# Altium integrated library NSC Amplifier.IntLib: 1615 symbols (part 27 of 44)
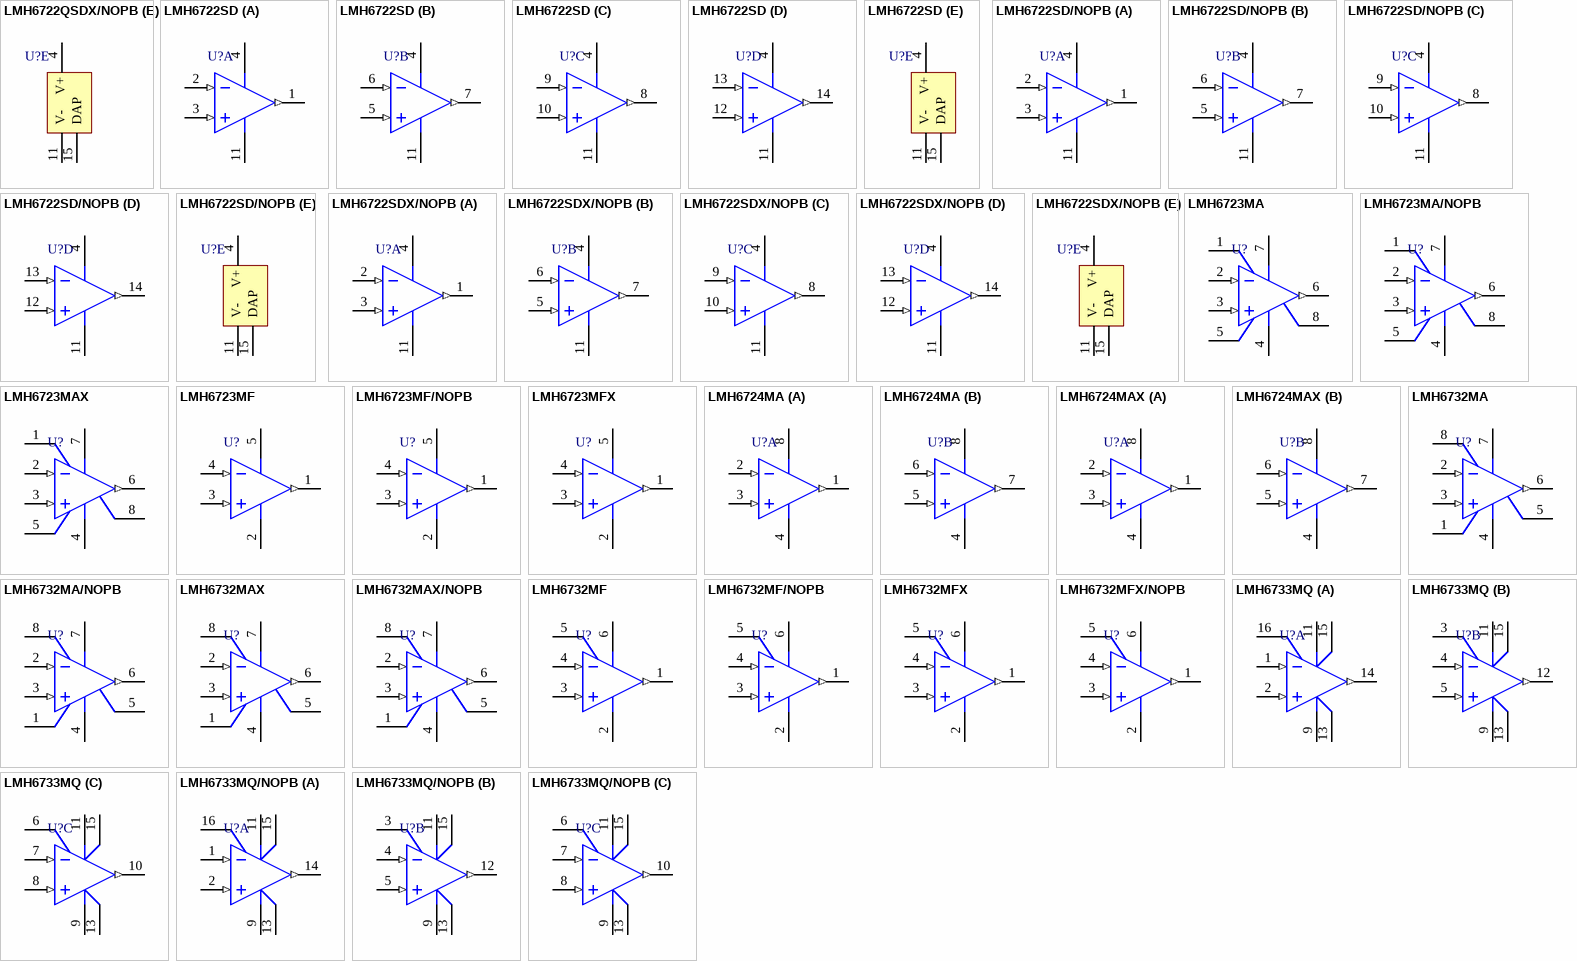
[diagram p108: symbols LMH6722QSDX/NOPB to LMH6733MQ/NOPB]

## LMH6723MF/NOPB
designator U?
Single/Quad 370 MHz 1 mA Current Feedback Op Amp, 5-pin SOT-23, Pb-Free; PartNumber: LMH6723MF/NOPB; Manufacturer: National Semiconductor; PackageTopMarking: AB1A*XTT; PowerWise: Y; CompType: Amplifiers; Published: 1-Mar-2010; DatasheetVersion: Aug-2005; PackageVersion: revD, Aug-2008; PackageReference: MF05A; Publisher: Altium Limited; PackageDescription: Molded SOT-23, .115 x .063 x .040 in Body, 5 Lead, .0375 in Pitch; Supplier 1: Digi-Key; Supplier Part Number 1: LMH6723MFTR-ND; Supplier 2: Digi-Key; Supplier Part Number 2: LMH6723MFCT-ND; Supplier 3: Digi-Key; Supplier Part Number 3: LMH6723MFDKR-ND; RoHS: Y; PinCount: 5; ComponentLink1Description: LMH6723 Datasheet; ComponentLink1URL: http://www.national.com/ds/LM/LMH6723.pdf; ComponentLink2Description: LMH6723 Web Page; ComponentLink2URL: http://www.national.com/pf/LM/LMH6723.html; ComponentLink3Description: MF05A Package Page; ComponentLink3URL: http://www.national.com/packaging/folders/mf05a.html
footprint MF05A_N (SOT23, 5-Leads, Body 2.9x1.6mm, Pitch 0.95mm, Lead Span 2.8mm, IPC Medium Density)
footprint MF05A_L (SOT23, 5-Leads, Body 2.9x1.6mm, Pitch 0.95mm, Lead Span 2.8mm, IPC High Density)
footprint MF05A_M (SOT23, 5-Leads, Body 2.9x1.6mm, Pitch 0.95mm, Lead Span 2.8mm, IPC Low Density)
simulation model LMH6723 (SUBCKT)
pins: 1 OUT (out), 2 V- (power), 3 IN+ (in), 4 IN- (in), 5 V+ (power)

## LMH6723MFX
designator U?
Single/Quad 370 MHz 1 mA Current Feedback Op Amp, 5-pin SOT-23; PartNumber: LMH6723MFX; Manufacturer: National Semiconductor; PackageTopMarking: AB1A*XTT; PowerWise: Y; CompType: Amplifiers; Published: 1-Mar-2010; DatasheetVersion: Aug-2005; PackageVersion: revD, Aug-2008; PackageReference: MF05A; Publisher: Altium Limited; PackageDescription: Molded SOT-23, .115 x .063 x .040 in Body, 5 Lead, .0375 in Pitch; RoHS: N; PinCount: 5; ComponentLink1Description: LMH6723 Datasheet; ComponentLink1URL: http://www.national.com/ds/LM/LMH6723.pdf; ComponentLink2Description: LMH6723 Web Page; ComponentLink2URL: http://www.national.com/pf/LM/LMH6723.html; ComponentLink3Description: MF05A Package Page; ComponentLink3URL: http://www.national.com/packaging/folders/mf05a.html
footprint MF05A_N (SOT23, 5-Leads, Body 2.9x1.6mm, Pitch 0.95mm, Lead Span 2.8mm, IPC Medium Density)
footprint MF05A_L (SOT23, 5-Leads, Body 2.9x1.6mm, Pitch 0.95mm, Lead Span 2.8mm, IPC High Density)
footprint MF05A_M (SOT23, 5-Leads, Body 2.9x1.6mm, Pitch 0.95mm, Lead Span 2.8mm, IPC Low Density)
simulation model LMH6723 (SUBCKT)
pins: 1 OUT (out), 2 V- (power), 3 IN+ (in), 4 IN- (in), 5 V+ (power)

## LMH6724MA
designator U?
Single/Dual/Quad 370 MHz 1 mA Current Feedback Op Amp, 8-pin Narrow SOIC; PartNumber: LMH6724MA; Manufacturer: National Semiconductor; PackageTopMarking: NSZXTT*LMH67*24MA; PowerWise: Y; CompType: Amplifiers; Published: 4-Dec-2008; LatestRevisionDate: 13-Jan-2009; LatestRevisionNote: Sim Model Added.; DatasheetVersion: Aug-2005; PackageVersion: revM, May-2009; PackageReference: M08A; Publisher: Altium Limited; PackageDescription: SOIC Narrow, 4.9 x 3.9 x 1.45mm, 8 Lead, 1.27mm Pitch; Supplier 1: Farnell; Supplier Part Number 1: 8180920; RoHS: N; PinCount: 8; Code_JEDEC: MS-012-AA; Code_IPC: SOIC127P600-8; ComponentLink1Description: LMH6724 Datasheet; ComponentLink1URL: http://www.national.com/ds/LM/LMH6724.pdf; ComponentLink2Description: LMH6724 Web Page; ComponentLink2URL: http://www.national.com/pf/LM/LMH6724.html; ComponentLink3Description: M08A Package Page; ComponentLink3URL: http://www.national.com/packaging/folders/m08a.html
footprint M08A_N (SOIC, 8-Leads, Body 4.9x3.9mm, Pitch 1.27mm, IPC Medium Density)
footprint M08A_L (SOIC, 8-Leads, Body 4.9x3.9mm, Pitch 1.27mm, IPC High Density)
footprint M08A_M (SOIC, 8-Leads, Body 4.9x3.9mm, Pitch 1.27mm, IPC Low Density)
simulation model LMH6723 (SUBCKT)
pins on every part: 4 V- (power), 8 V+ (power)
part A pins: 1 OUTA (out), 2 INA- (in), 3 INA+ (in)
part B pins: 5 INB+ (in), 6 INB- (in), 7 OUTB (out)

## LMH6724MAX
designator U?
Single/Dual/Quad 370 MHz 1 mA Current Feedback Op Amp, 8-pin Narrow SOIC; PartNumber: LMH6724MAX; Manufacturer: National Semiconductor; PackageTopMarking: NSZXTT*LMH67*24MA; PowerWise: Y; CompType: Amplifiers; Published: 1-Mar-2010; DatasheetVersion: Aug-2005; PackageVersion: revM, May-2009; PackageReference: M08A; Publisher: Altium Limited; PackageDescription: SOIC Narrow, 4.9 x 3.9 x 1.45mm, 8 Lead, 1.27mm Pitch; RoHS: N; PinCount: 8; Code_JEDEC: MS-012-AA; Code_IPC: SOIC127P600-8; ComponentLink1Description: LMH6724 Datasheet; ComponentLink1URL: http://www.national.com/ds/LM/LMH6724.pdf; ComponentLink2Description: LMH6724 Web Page; ComponentLink2URL: http://www.national.com/pf/LM/LMH6724.html; ComponentLink3Description: M08A Package Page; ComponentLink3URL: http://www.national.com/packaging/folders/m08a.html
footprint M08A_N (SOIC, 8-Leads, Body 4.9x3.9mm, Pitch 1.27mm, IPC Medium Density)
footprint M08A_L (SOIC, 8-Leads, Body 4.9x3.9mm, Pitch 1.27mm, IPC High Density)
footprint M08A_M (SOIC, 8-Leads, Body 4.9x3.9mm, Pitch 1.27mm, IPC Low Density)
simulation model LMH6723 (SUBCKT)
pins on every part: 4 V- (power), 8 V+ (power)
part A pins: 1 OUTA (out), 2 INA- (in), 3 INA+ (in)
part B pins: 5 INB+ (in), 6 INB- (in), 7 OUTB (out)

## LMH6732MA
designator U?
High Speed Op Amp with Adjustable Bandwidth, 8-pin Narrow SOIC; PartNumber: LMH6732MA; Manufacturer: National Semiconductor; PackageTopMarking: NSZXTT*LMH67*32MA; PowerWise: Y; CompType: Amplifiers; Published: 4-Dec-2008; DatasheetVersion: Mar-2004; PackageVersion: revM, May-2009; PackageReference: M08A; Publisher: Altium Limited; PackageDescription: SOIC Narrow, 4.9 x 3.9 x 1.45mm, 8 Lead, 1.27mm Pitch; Supplier 1: Farnell; Supplier Part Number 1: 8180954; RoHS: N; PinCount: 8; Code_JEDEC: MS-012-AA; Code_IPC: SOIC127P600-8; ComponentLink1Description: LMH6732 Datasheet; ComponentLink1URL: http://www.national.com/ds/LM/LMH6732.pdf; ComponentLink2Description: LMH6732 Web Page; ComponentLink2URL: http://www.national.com/pf/LM/LMH6732.html; ComponentLink3Description: M08A Package Page; ComponentLink3URL: http://www.national.com/packaging/folders/m08a.html
footprint M08A_N (SOIC, 8-Leads, Body 4.9x3.9mm, Pitch 1.27mm, IPC Medium Density)
footprint M08A_L (SOIC, 8-Leads, Body 4.9x3.9mm, Pitch 1.27mm, IPC High Density)
footprint M08A_M (SOIC, 8-Leads, Body 4.9x3.9mm, Pitch 1.27mm, IPC Low Density)
pins: 1 NC, 2 IN- (in), 3 IN+ (in), 4 V- (power), 5 NC, 6 OUT (out), 7 V+ (power), 8 RP

## LMH6732MA/NOPB
designator U?
High Speed Op Amp with Adjustable Bandwidth, 8-pin Narrow SOIC, Pb-Free; PartNumber: LMH6732MA/NOPB; Manufacturer: National Semiconductor; PackageTopMarking: NSZXTT*LMH67*32MA; PowerWise: Y; CompType: Amplifiers; Published: 1-Mar-2010; DatasheetVersion: Mar-2004; PackageVersion: revM, May-2009; PackageReference: M08A; Publisher: Altium Limited; PackageDescription: SOIC Narrow, 4.9 x 3.9 x 1.45mm, 8 Lead, 1.27mm Pitch; Supplier 1: Digi-Key; Supplier Part Number 1: LMH6732MA-ND; RoHS: Y; PinCount: 8; Code_JEDEC: MS-012-AA; Code_IPC: SOIC127P600-8; ComponentLink1Description: LMH6732 Datasheet; ComponentLink1URL: http://www.national.com/ds/LM/LMH6732.pdf; ComponentLink2Description: LMH6732 Web Page; ComponentLink2URL: http://www.national.com/pf/LM/LMH6732.html; ComponentLink3Description: M08A Package Page; ComponentLink3URL: http://www.national.com/packaging/folders/m08a.html
footprint M08A_N (SOIC, 8-Leads, Body 4.9x3.9mm, Pitch 1.27mm, IPC Medium Density)
footprint M08A_L (SOIC, 8-Leads, Body 4.9x3.9mm, Pitch 1.27mm, IPC High Density)
footprint M08A_M (SOIC, 8-Leads, Body 4.9x3.9mm, Pitch 1.27mm, IPC Low Density)
pins: 1 NC, 2 IN- (in), 3 IN+ (in), 4 V- (power), 5 NC, 6 OUT (out), 7 V+ (power), 8 RP

## LMH6732MAX
designator U?
High Speed Op Amp with Adjustable Bandwidth, 8-pin Narrow SOIC; PartNumber: LMH6732MAX; Manufacturer: National Semiconductor; PackageTopMarking: NSZXTT*LMH67*32MA; PowerWise: Y; CompType: Amplifiers; Published: 1-Mar-2010; DatasheetVersion: Mar-2004; PackageVersion: revM, May-2009; PackageReference: M08A; Publisher: Altium Limited; PackageDescription: SOIC Narrow, 4.9 x 3.9 x 1.45mm, 8 Lead, 1.27mm Pitch; RoHS: N; PinCount: 8; Code_JEDEC: MS-012-AA; Code_IPC: SOIC127P600-8; ComponentLink1Description: LMH6732 Datasheet; ComponentLink1URL: http://www.national.com/ds/LM/LMH6732.pdf; ComponentLink2Description: LMH6732 Web Page; ComponentLink2URL: http://www.national.com/pf/LM/LMH6732.html; ComponentLink3Description: M08A Package Page; ComponentLink3URL: http://www.national.com/packaging/folders/m08a.html
footprint M08A_N (SOIC, 8-Leads, Body 4.9x3.9mm, Pitch 1.27mm, IPC Medium Density)
footprint M08A_L (SOIC, 8-Leads, Body 4.9x3.9mm, Pitch 1.27mm, IPC High Density)
footprint M08A_M (SOIC, 8-Leads, Body 4.9x3.9mm, Pitch 1.27mm, IPC Low Density)
pins: 1 NC, 2 IN- (in), 3 IN+ (in), 4 V- (power), 5 NC, 6 OUT (out), 7 V+ (power), 8 RP

## LMH6732MAX/NOPB
designator U?
High Speed Op Amp with Adjustable Bandwidth, 8-pin Narrow SOIC, Pb-Free; PartNumber: LMH6732MAX/NOPB; Manufacturer: National Semiconductor; PackageTopMarking: NSZXTT*LMH67*32MA; PowerWise: Y; CompType: Amplifiers; Published: 1-Mar-2010; DatasheetVersion: Mar-2004; PackageVersion: revM, May-2009; PackageReference: M08A; Publisher: Altium Limited; PackageDescription: SOIC Narrow, 4.9 x 3.9 x 1.45mm, 8 Lead, 1.27mm Pitch; Supplier 1: Digi-Key; Supplier Part Number 1: LMH6732MAX-ND; RoHS: Y; PinCount: 8; Code_JEDEC: MS-012-AA; Code_IPC: SOIC127P600-8; ComponentLink1Description: LMH6732 Datasheet; ComponentLink1URL: http://www.national.com/ds/LM/LMH6732.pdf; ComponentLink2Description: LMH6732 Web Page; ComponentLink2URL: http://www.national.com/pf/LM/LMH6732.html; ComponentLink3Description: M08A Package Page; ComponentLink3URL: http://www.national.com/packaging/folders/m08a.html
footprint M08A_N (SOIC, 8-Leads, Body 4.9x3.9mm, Pitch 1.27mm, IPC Medium Density)
footprint M08A_L (SOIC, 8-Leads, Body 4.9x3.9mm, Pitch 1.27mm, IPC High Density)
footprint M08A_M (SOIC, 8-Leads, Body 4.9x3.9mm, Pitch 1.27mm, IPC Low Density)
pins: 1 NC, 2 IN- (in), 3 IN+ (in), 4 V- (power), 5 NC, 6 OUT (out), 7 V+ (power), 8 RP

## LMH6732MF
designator U?
High Speed Op Amp with Adjustable Bandwidth, 6-pin SOT-23; PartNumber: LMH6732MF; Manufacturer: National Semiconductor; PackageTopMarking: A97A*XTT; PowerWise: Y; CompType: Amplifiers; Published: 4-Dec-2008; DatasheetVersion: Mar-2004; PackageVersion: revC, Sep-2005; PackageReference: MF06A; Publisher: Altium Limited; PackageDescription: Molded SOT-23, .115 x .063 x .040in Body, 6 Lead, .0375in in Pitch; Supplier 1: Farnell; Supplier Part Number 1: 8180962; RoHS: N; PinCount: 6; Code_JEDEC: MO-178-AB; Code_IPC: SOT26A-6; ComponentLink1Description: LMH6732 Datasheet; ComponentLink1URL: http://www.national.com/ds/LM/LMH6732.pdf; ComponentLink2Description: LMH6732 Web Page; ComponentLink2URL: http://www.national.com/pf/LM/LMH6732.html; ComponentLink3Description: MF06A Package Page; ComponentLink3URL: http://www.national.com/packaging/folders/mf06a.html
footprint MF06A_N (SOT23, 6-Leads, Body 2.9x1.6mm, Pitch 0.95mm, Lead Span 2.8mm, IPC Medium Density)
footprint MF06A_L (SOT23, 6-Leads, Body 2.9x1.6mm, Pitch 0.95mm, Lead Span 2.8mm, IPC High Density)
footprint MF06A_M (SOT23, 6-Leads, Body 2.9x1.6mm, Pitch 0.95mm, Lead Span 2.8mm, IPC Low Density)
pins: 1 OUT (out), 2 V- (power), 3 IN+ (in), 4 IN- (in), 5 RP, 6 V+ (power)

## LMH6732MF/NOPB
designator U?
High Speed Op Amp with Adjustable Bandwidth, 6-pin SOT-23, Pb-Free; PartNumber: LMH6732MF/NOPB; Manufacturer: National Semiconductor; PackageTopMarking: A97A*XTT; PowerWise: Y; CompType: Amplifiers; Published: 1-Mar-2010; DatasheetVersion: Mar-2004; PackageVersion: revC, Sep-2005; PackageReference: MF06A; Publisher: Altium Limited; PackageDescription: Molded SOT-23, .115 x .063 x .040in Body, 6 Lead, .0375in in Pitch; Supplier 1: Digi-Key; Supplier Part Number 1: LMH6732MFTR-ND; Supplier 2: Digi-Key; Supplier Part Number 2: LMH6732MFCT-ND; Supplier 3: Digi-Key; Supplier Part Number 3: LMH6732MFDKR-ND; RoHS: Y; PinCount: 6; Code_JEDEC: MO-178-AB; Code_IPC: SOT26A-6; ComponentLink1Description: LMH6732 Datasheet; ComponentLink1URL: http://www.national.com/ds/LM/LMH6732.pdf; ComponentLink2Description: LMH6732 Web Page; ComponentLink2URL: http://www.national.com/pf/LM/LMH6732.html; ComponentLink3Description: MF06A Package Page; ComponentLink3URL: http://www.national.com/packaging/folders/mf06a.html
footprint MF06A_N (SOT23, 6-Leads, Body 2.9x1.6mm, Pitch 0.95mm, Lead Span 2.8mm, IPC Medium Density)
footprint MF06A_L (SOT23, 6-Leads, Body 2.9x1.6mm, Pitch 0.95mm, Lead Span 2.8mm, IPC High Density)
footprint MF06A_M (SOT23, 6-Leads, Body 2.9x1.6mm, Pitch 0.95mm, Lead Span 2.8mm, IPC Low Density)
pins: 1 OUT (out), 2 V- (power), 3 IN+ (in), 4 IN- (in), 5 RP, 6 V+ (power)

## LMH6732MFX
designator U?
High Speed Op Amp with Adjustable Bandwidth, 6-pin SOT-23; PartNumber: LMH6732MFX; Manufacturer: National Semiconductor; PackageTopMarking: A97A*XTT; PowerWise: Y; CompType: Amplifiers; Published: 1-Mar-2010; DatasheetVersion: Mar-2004; PackageVersion: revC, Sep-2005; PackageReference: MF06A; Publisher: Altium Limited; PackageDescription: Molded SOT-23, .115 x .063 x .040in Body, 6 Lead, .0375in in Pitch; RoHS: N; PinCount: 6; Code_JEDEC: MO-178-AB; Code_IPC: SOT26A-6; ComponentLink1Description: LMH6732 Datasheet; ComponentLink1URL: http://www.national.com/ds/LM/LMH6732.pdf; ComponentLink2Description: LMH6732 Web Page; ComponentLink2URL: http://www.national.com/pf/LM/LMH6732.html; ComponentLink3Description: MF06A Package Page; ComponentLink3URL: http://www.national.com/packaging/folders/mf06a.html
footprint MF06A_N (SOT23, 6-Leads, Body 2.9x1.6mm, Pitch 0.95mm, Lead Span 2.8mm, IPC Medium Density)
footprint MF06A_L (SOT23, 6-Leads, Body 2.9x1.6mm, Pitch 0.95mm, Lead Span 2.8mm, IPC High Density)
footprint MF06A_M (SOT23, 6-Leads, Body 2.9x1.6mm, Pitch 0.95mm, Lead Span 2.8mm, IPC Low Density)
pins: 1 OUT (out), 2 V- (power), 3 IN+ (in), 4 IN- (in), 5 RP, 6 V+ (power)

## LMH6732MFX/NOPB
designator U?
High Speed Op Amp with Adjustable Bandwidth, 6-pin SOT-23, Pb-Free; PartNumber: LMH6732MFX/NOPB; Manufacturer: National Semiconductor; PackageTopMarking: A97A*XTT; PowerWise: Y; CompType: Amplifiers; Published: 1-Mar-2010; DatasheetVersion: Mar-2004; PackageVersion: revC, Sep-2005; PackageReference: MF06A; Publisher: Altium Limited; PackageDescription: Molded SOT-23, .115 x .063 x .040in Body, 6 Lead, .0375in in Pitch; Supplier 1: Digi-Key; Supplier Part Number 1: LMH6732MFX-ND; RoHS: Y; PinCount: 6; Code_JEDEC: MO-178-AB; Code_IPC: SOT26A-6; ComponentLink1Description: LMH6732 Datasheet; ComponentLink1URL: http://www.national.com/ds/LM/LMH6732.pdf; ComponentLink2Description: LMH6732 Web Page; ComponentLink2URL: http://www.national.com/pf/LM/LMH6732.html; ComponentLink3Description: MF06A Package Page; ComponentLink3URL: http://www.national.com/packaging/folders/mf06a.html
footprint MF06A_N (SOT23, 6-Leads, Body 2.9x1.6mm, Pitch 0.95mm, Lead Span 2.8mm, IPC Medium Density)
footprint MF06A_L (SOT23, 6-Leads, Body 2.9x1.6mm, Pitch 0.95mm, Lead Span 2.8mm, IPC High Density)
footprint MF06A_M (SOT23, 6-Leads, Body 2.9x1.6mm, Pitch 0.95mm, Lead Span 2.8mm, IPC Low Density)
pins: 1 OUT (out), 2 V- (power), 3 IN+ (in), 4 IN- (in), 5 RP, 6 V+ (power)

## LMH6733MQ
designator U?
Single Supply, 1.0 GHz, Triple Operational Amplifier, 16-pin SSOP; PartNumber: LMH6733MQ; Manufacturer: National Semiconductor; PackageTopMarking: NSXYTT*LH67*33MQ; PowerWise: Y; CompType: Amplifiers; Published: 4-Dec-2008; LatestRevisionDate: 13-Jan-2009; LatestRevisionNote: Sim Model Added.; DatasheetVersion: Feb-2009; PackageVersion: revB, Jan-2005; PackageReference: MQA16; Publisher: Altium Limited; PackageDescription: SSOP, .150in Body Width, .025in Pitch, 16 Lead; Supplier 1: Farnell; Supplier Part Number 1: 1333959; RoHS: Y; PinCount: 16; Code_JEDEC: MO-137-AB; ComponentLink1Description: LMH6733 Datasheet; ComponentLink1URL: http://www.national.com/ds/LM/LMH6733.pdf; ComponentLink2Description: LMH6733 Web Page; ComponentLink2URL: http://www.national.com/pf/LM/LMH6733.html; ComponentLink3Description: MQA16 Package Page; ComponentLink3URL: http://www.national.com/packaging/folders/mqa16.html
footprint MQA16_N (SOP, 16-Leads, Body 4.9x3.9mm, Pitch 0.635mm, IPC Medium Density)
footprint MQA16_L (SOP, 16-Leads, Body 4.9x3.9mm, Pitch 0.635mm, IPC High Density)
footprint MQA16_M (SOP, 16-Leads, Body 4.9x3.9mm, Pitch 0.635mm, IPC Low Density)
simulation model LMH6733 (SUBCKT)
pins on every part: 9 VS- (power), 11 VS+ (power), 13 VS- (power), 15 VS+ (power)
part A pins: 1 INA- (in), 2 INA+ (in), 14 OUTA (out), 16 ~{DIS A}
part B pins: 3 ~{DIS B}, 4 INB- (in), 5 INB+ (in), 12 OUTB (out)
part C pins: 6 ~{DIS C}, 7 INC- (in), 8 INC+ (in), 10 OUTC (out)

## LMH6733MQ/NOPB
designator U?
Single Supply, 1.0 GHz, Triple Operational Amplifier, 16-pin SSOP, Pb-Free; PartNumber: LMH6733MQ/NOPB; Manufacturer: National Semiconductor; PackageTopMarking: NSXYTT*LH67*33MQ; PowerWise: Y; CompType: Amplifiers; Published: 1-Mar-2010; DatasheetVersion: Feb-2009; PackageVersion: revB, Jan-2005; PackageReference: MQA16; Publisher: Altium Limited; PackageDescription: SSOP, .150in Body Width, .025in Pitch, 16 Lead; Supplier 1: Digi-Key; Supplier Part Number 1: LMH6733MQ-ND; Supplier 2: Farnell; Supplier Part Number 2: 1693912; RoHS: Y; PinCount: 16; Code_JEDEC: MO-137-AB; ComponentLink1Description: LMH6733 Datasheet; ComponentLink1URL: http://www.national.com/ds/LM/LMH6733.pdf; ComponentLink2Description: LMH6733 Web Page; ComponentLink2URL: http://www.national.com/pf/LM/LMH6733.html; ComponentLink3Description: MQA16 Package Page; ComponentLink3URL: http://www.national.com/packaging/folders/mqa16.html
footprint MQA16_N (SOP, 16-Leads, Body 4.9x3.9mm, Pitch 0.635mm, IPC Medium Density)
footprint MQA16_L (SOP, 16-Leads, Body 4.9x3.9mm, Pitch 0.635mm, IPC High Density)
footprint MQA16_M (SOP, 16-Leads, Body 4.9x3.9mm, Pitch 0.635mm, IPC Low Density)
simulation model LMH6733 (SUBCKT)
pins on every part: 9 VS- (power), 11 VS+ (power), 13 VS- (power), 15 VS+ (power)
part A pins: 1 INA- (in), 2 INA+ (in), 14 OUTA (out), 16 ~{DIS A}
part B pins: 3 ~{DIS B}, 4 INB- (in), 5 INB+ (in), 12 OUTB (out)
part C pins: 6 ~{DIS C}, 7 INC- (in), 8 INC+ (in), 10 OUTC (out)

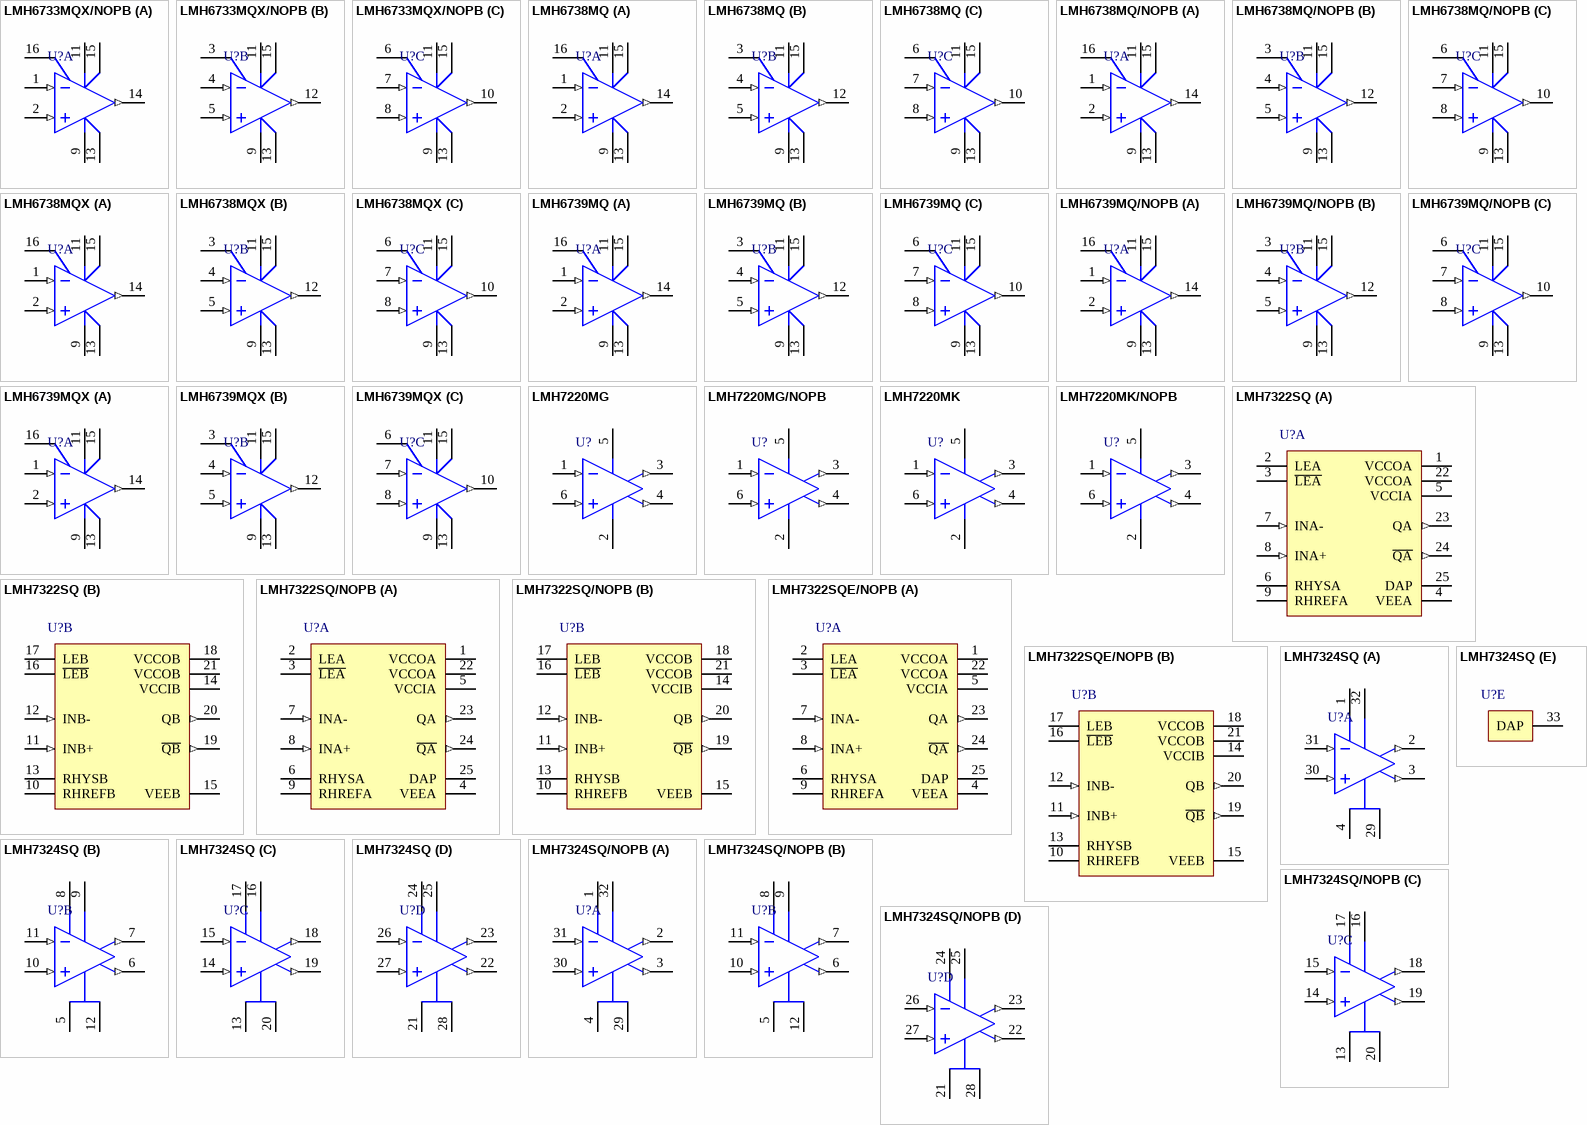
[diagram p53: symbols LMH6733MQX/NOPB to LMH7324SQ/NOPB]

## LMH6733MQX/NOPB
designator U?
Single Supply, 1.0 GHz, Triple Operational Amplifier, 16-pin SSOP, Pb-Free; PartNumber: LMH6733MQX/NOPB; Manufacturer: National Semiconductor; PackageTopMarking: NSXYTT*LH67*33MQ; PowerWise: Y; CompType: Amplifiers; Published: 1-Mar-2010; DatasheetVersion: Feb-2009; PackageVersion: revB, Jan-2005; PackageReference: MQA16; Publisher: Altium Limited; PackageDescription: SSOP, .150in Body Width, .025in Pitch, 16 Lead; Supplier 1: Digi-Key; Supplier Part Number 1: LMH6733MQX-ND; RoHS: Y; PinCount: 16; Code_JEDEC: MO-137-AB; ComponentLink1Description: LMH6733 Datasheet; ComponentLink1URL: http://www.national.com/ds/LM/LMH6733.pdf; ComponentLink2Description: LMH6733 Web Page; ComponentLink2URL: http://www.national.com/pf/LM/LMH6733.html; ComponentLink3Description: MQA16 Package Page; ComponentLink3URL: http://www.national.com/packaging/folders/mqa16.html
footprint MQA16_N (SOP, 16-Leads, Body 4.9x3.9mm, Pitch 0.635mm, IPC Medium Density)
footprint MQA16_L (SOP, 16-Leads, Body 4.9x3.9mm, Pitch 0.635mm, IPC High Density)
footprint MQA16_M (SOP, 16-Leads, Body 4.9x3.9mm, Pitch 0.635mm, IPC Low Density)
simulation model LMH6733 (SUBCKT)
pins on every part: 9 VS- (power), 11 VS+ (power), 13 VS- (power), 15 VS+ (power)
part A pins: 1 INA- (in), 2 INA+ (in), 14 OUTA (out), 16 ~{DIS A}
part B pins: 3 ~{DIS B}, 4 INB- (in), 5 INB+ (in), 12 OUTB (out)
part C pins: 6 ~{DIS C}, 7 INC- (in), 8 INC+ (in), 10 OUTC (out)

## LMH6738MQ
designator U?
Very Wideband, Low Distortion Triple Op Amp, 16-pin SSOP; PartNumber: LMH6738MQ; Manufacturer: National Semiconductor; PackageTopMarking: NSXYTT*LH67*38MQ; PowerWise: Y; CompType: Amplifiers; Published: 4-Dec-2008; LatestRevisionDate: 13-Jan-2009; LatestRevisionNote: Sim Model Added.; DatasheetVersion: Apr-2006; PackageVersion: revB, Jan-2005; PackageReference: MQA16; Publisher: Altium Limited; PackageDescription: SSOP, .150in Body Width, .025in Pitch, 16 Lead; Supplier 1: Farnell; Supplier Part Number 1: 8180970; RoHS: N; PinCount: 16; Code_JEDEC: MO-137-AB; ComponentLink1Description: LMH6738 Datasheet; ComponentLink1URL: http://www.national.com/ds/LM/LMH6738.pdf; ComponentLink2Description: LMH6738 Web Page; ComponentLink2URL: http://www.national.com/pf/LM/LMH6738.html; ComponentLink3Description: MQA16 Package Page; ComponentLink3URL: http://www.national.com/packaging/folders/mqa16.html
footprint MQA16_N (SOP, 16-Leads, Body 4.9x3.9mm, Pitch 0.635mm, IPC Medium Density)
footprint MQA16_L (SOP, 16-Leads, Body 4.9x3.9mm, Pitch 0.635mm, IPC High Density)
footprint MQA16_M (SOP, 16-Leads, Body 4.9x3.9mm, Pitch 0.635mm, IPC Low Density)
simulation model LMH6738 (SUBCKT)
pins on every part: 9 VS- (power), 11 VS+ (power), 13 VS- (power), 15 VS+ (power)
part A pins: 1 INA- (in), 2 INA+ (in), 14 OUTA (out), 16 ~{DIS A}
part B pins: 3 ~{DIS B}, 4 INB- (in), 5 INB+ (in), 12 OUTB (out)
part C pins: 6 ~{DIS C}, 7 INC- (in), 8 INC+ (in), 10 OUTC (out)

## LMH6738MQ/NOPB
designator U?
Very Wideband, Low Distortion Triple Op Amp, 16-pin SSOP, Pb-Free; PartNumber: LMH6738MQ/NOPB; Manufacturer: National Semiconductor; PackageTopMarking: NSXYTT*LH67*38MQ; PowerWise: Y; CompType: Amplifiers; Published: 1-Mar-2010; DatasheetVersion: Apr-2006; PackageVersion: revB, Jan-2005; PackageReference: MQA16; Publisher: Altium Limited; PackageDescription: SSOP, .150in Body Width, .025in Pitch, 16 Lead; Supplier 1: Digi-Key; Supplier Part Number 1: LMH6738MQ-ND; RoHS: Y; PinCount: 16; Code_JEDEC: MO-137-AB; ComponentLink1Description: LMH6738 Datasheet; ComponentLink1URL: http://www.national.com/ds/LM/LMH6738.pdf; ComponentLink2Description: LMH6738 Web Page; ComponentLink2URL: http://www.national.com/pf/LM/LMH6738.html; ComponentLink3Description: MQA16 Package Page; ComponentLink3URL: http://www.national.com/packaging/folders/mqa16.html
footprint MQA16_N (SOP, 16-Leads, Body 4.9x3.9mm, Pitch 0.635mm, IPC Medium Density)
footprint MQA16_L (SOP, 16-Leads, Body 4.9x3.9mm, Pitch 0.635mm, IPC High Density)
footprint MQA16_M (SOP, 16-Leads, Body 4.9x3.9mm, Pitch 0.635mm, IPC Low Density)
simulation model LMH6738 (SUBCKT)
pins on every part: 9 VS- (power), 11 VS+ (power), 13 VS- (power), 15 VS+ (power)
part A pins: 1 INA- (in), 2 INA+ (in), 14 OUTA (out), 16 ~{DIS A}
part B pins: 3 ~{DIS B}, 4 INB- (in), 5 INB+ (in), 12 OUTB (out)
part C pins: 6 ~{DIS C}, 7 INC- (in), 8 INC+ (in), 10 OUTC (out)

## LMH6738MQX
designator U?
Very Wideband, Low Distortion Triple Op Amp, 16-pin SSOP; PartNumber: LMH6738MQX; Manufacturer: National Semiconductor; PackageTopMarking: NSXYTT*LH67*38MQ; PowerWise: Y; CompType: Amplifiers; Published: 1-Mar-2010; DatasheetVersion: Apr-2006; PackageVersion: revB, Jan-2005; PackageReference: MQA16; Publisher: Altium Limited; PackageDescription: SSOP, .150in Body Width, .025in Pitch, 16 Lead; RoHS: N; PinCount: 16; Code_JEDEC: MO-137-AB; ComponentLink1Description: LMH6738 Datasheet; ComponentLink1URL: http://www.national.com/ds/LM/LMH6738.pdf; ComponentLink2Description: LMH6738 Web Page; ComponentLink2URL: http://www.national.com/pf/LM/LMH6738.html; ComponentLink3Description: MQA16 Package Page; ComponentLink3URL: http://www.national.com/packaging/folders/mqa16.html
footprint MQA16_N (SOP, 16-Leads, Body 4.9x3.9mm, Pitch 0.635mm, IPC Medium Density)
footprint MQA16_L (SOP, 16-Leads, Body 4.9x3.9mm, Pitch 0.635mm, IPC High Density)
footprint MQA16_M (SOP, 16-Leads, Body 4.9x3.9mm, Pitch 0.635mm, IPC Low Density)
simulation model LMH6738 (SUBCKT)
pins on every part: 9 VS- (power), 11 VS+ (power), 13 VS- (power), 15 VS+ (power)
part A pins: 1 INA- (in), 2 INA+ (in), 14 OUTA (out), 16 ~{DIS A}
part B pins: 3 ~{DIS B}, 4 INB- (in), 5 INB+ (in), 12 OUTB (out)
part C pins: 6 ~{DIS C}, 7 INC- (in), 8 INC+ (in), 10 OUTC (out)

## LMH6739MQ
designator U?
Very Wideband, Low Distortion Triple Video Buffer, 16-pin SSOP; PartNumber: LMH6739MQ; Manufacturer: National Semiconductor; PackageTopMarking: NSXYTT*LH67*39MQ; PowerWise: N; CompType: Amplifiers; Published: 4-Dec-2008; LatestRevisionDate: 13-Jan-2009; LatestRevisionNote: Sim Model Added.; DatasheetVersion: Dec-2007; PackageVersion: revB, Jan-2005; PackageReference: MQA16; Publisher: Altium Limited; PackageDescription: SSOP, .150in Body Width, .025in Pitch, 16 Lead; Supplier 1: Farnell; Supplier Part Number 1: 8180989; RoHS: N; PinCount: 16; Code_JEDEC: MO-137-AB; ComponentLink1Description: LMH6739 Datasheet; ComponentLink1URL: http://www.national.com/ds/LM/LMH6739.pdf; ComponentLink2Description: LMH6739 Web Page; ComponentLink2URL: http://www.national.com/pf/LM/LMH6739.html; ComponentLink3Description: MQA16 Package Page; ComponentLink3URL: http://www.national.com/packaging/folders/mqa16.html
footprint MQA16_N (SOP, 16-Leads, Body 4.9x3.9mm, Pitch 0.635mm, IPC Medium Density)
footprint MQA16_L (SOP, 16-Leads, Body 4.9x3.9mm, Pitch 0.635mm, IPC High Density)
footprint MQA16_M (SOP, 16-Leads, Body 4.9x3.9mm, Pitch 0.635mm, IPC Low Density)
simulation model LMH6739 (SUBCKT)
pins on every part: 9 VS- (power), 11 VS+ (power), 13 VS- (power), 15 VS+ (power)
part A pins: 1 INA- (in), 2 INA+ (in), 14 OUTA (out), 16 ~{DIS A}
part B pins: 3 ~{DIS B}, 4 INB- (in), 5 INB+ (in), 12 OUTB (out)
part C pins: 6 ~{DIS C}, 7 INC- (in), 8 INC+ (in), 10 OUTC (out)

## LMH6739MQ/NOPB
designator U?
Very Wideband, Low Distortion Triple Video Buffer, 16-pin SSOP, Pb-Free; PartNumber: LMH6739MQ/NOPB; Manufacturer: National Semiconductor; PackageTopMarking: NSXYTT*LH67*39MQ; PowerWise: N; CompType: Amplifiers; Published: 1-Mar-2010; DatasheetVersion: Dec-2007; PackageVersion: revB, Jan-2005; PackageReference: MQA16; Publisher: Altium Limited; PackageDescription: SSOP, .150in Body Width, .025in Pitch, 16 Lead; Supplier 1: Digi-Key; Supplier Part Number 1: LMH6739MQ-ND; Supplier 2: Farnell; Supplier Part Number 2: 1685372; RoHS: Y; PinCount: 16; Code_JEDEC: MO-137-AB; ComponentLink1Description: LMH6739 Datasheet; ComponentLink1URL: http://www.national.com/ds/LM/LMH6739.pdf; ComponentLink2Description: LMH6739 Web Page; ComponentLink2URL: http://www.national.com/pf/LM/LMH6739.html; ComponentLink3Description: MQA16 Package Page; ComponentLink3URL: http://www.national.com/packaging/folders/mqa16.html
footprint MQA16_N (SOP, 16-Leads, Body 4.9x3.9mm, Pitch 0.635mm, IPC Medium Density)
footprint MQA16_L (SOP, 16-Leads, Body 4.9x3.9mm, Pitch 0.635mm, IPC High Density)
footprint MQA16_M (SOP, 16-Leads, Body 4.9x3.9mm, Pitch 0.635mm, IPC Low Density)
simulation model LMH6739 (SUBCKT)
pins on every part: 9 VS- (power), 11 VS+ (power), 13 VS- (power), 15 VS+ (power)
part A pins: 1 INA- (in), 2 INA+ (in), 14 OUTA (out), 16 ~{DIS A}
part B pins: 3 ~{DIS B}, 4 INB- (in), 5 INB+ (in), 12 OUTB (out)
part C pins: 6 ~{DIS C}, 7 INC- (in), 8 INC+ (in), 10 OUTC (out)

## LMH6739MQX
designator U?
Very Wideband, Low Distortion Triple Video Buffer, 16-pin SSOP; PartNumber: LMH6739MQX; Manufacturer: National Semiconductor; PackageTopMarking: NSXYTT*LH67*39MQ; PowerWise: N; CompType: Amplifiers; Published: 1-Mar-2010; DatasheetVersion: Dec-2007; PackageVersion: revB, Jan-2005; PackageReference: MQA16; Publisher: Altium Limited; PackageDescription: SSOP, .150in Body Width, .025in Pitch, 16 Lead; RoHS: N; PinCount: 16; Code_JEDEC: MO-137-AB; ComponentLink1Description: LMH6739 Datasheet; ComponentLink1URL: http://www.national.com/ds/LM/LMH6739.pdf; ComponentLink2Description: LMH6739 Web Page; ComponentLink2URL: http://www.national.com/pf/LM/LMH6739.html; ComponentLink3Description: MQA16 Package Page; ComponentLink3URL: http://www.national.com/packaging/folders/mqa16.html
footprint MQA16_N (SOP, 16-Leads, Body 4.9x3.9mm, Pitch 0.635mm, IPC Medium Density)
footprint MQA16_L (SOP, 16-Leads, Body 4.9x3.9mm, Pitch 0.635mm, IPC High Density)
footprint MQA16_M (SOP, 16-Leads, Body 4.9x3.9mm, Pitch 0.635mm, IPC Low Density)
simulation model LMH6739 (SUBCKT)
pins on every part: 9 VS- (power), 11 VS+ (power), 13 VS- (power), 15 VS+ (power)
part A pins: 1 INA- (in), 2 INA+ (in), 14 OUTA (out), 16 ~{DIS A}
part B pins: 3 ~{DIS B}, 4 INB- (in), 5 INB+ (in), 12 OUTB (out)
part C pins: 6 ~{DIS C}, 7 INC- (in), 8 INC+ (in), 10 OUTC (out)

## LMH7220MG
designator U?
High Speed Comparator with LVDS Output, 6-pin SC-70; PartNumber: LMH7220MG; Manufacturer: National Semiconductor; PackageTopMarking: C38*XTT; PowerWise: Y; CompType: Amplifiers; Published: 4-Dec-2008; DatasheetVersion: May-2008; PackageVersion: revB, Jun-2007; PackageReference: MAA06A; Publisher: Altium Limited; PackageDescription: Molded SC-70, 2 x 1.25 x .9mm, 6 Lead, 0.65mm Pitch; Supplier 1: Farnell; Supplier Part Number 1: 1609190; RoHS: Y; PinCount: 6; ComponentLink1Description: LMH7220 Datasheet; ComponentLink1URL: http://www.national.com/ds/LM/LMH7220.pdf; ComponentLink2Description: LMH7220 Web Page; ComponentLink2URL: http://www.national.com/pf/LM/LMH7220.html; ComponentLink3Description: MAA06A Package Page; ComponentLink3URL: http://www.national.com/packaging/folders/maa06a.html
footprint MAA06A_N (SOT363, 6-Leads, Body 2x1.3mm, Pitch 0.65mm, Lead Span 2.1mm, IPC Medium Density)
footprint MAA06A_L (SOT363, 6-Leads, Body 2x1.3mm, Pitch 0.65mm, Lead Span 2.1mm, IPC High Density)
footprint MAA06A_M (SOT363, 6-Leads, Body 2x1.3mm, Pitch 0.65mm, Lead Span 2.1mm, IPC Low Density)
pins: 1 IN- (in), 2 GND (power), 3 OUT ~{Q} (out), 4  OUT Q (out), 5 VCC (power), 6 IN+ (in)

## LMH7220MG/NOPB
designator U?
High Speed Comparator with LVDS Output, 6-pin SC-70, Pb-Free; PartNumber: LMH7220MG/NOPB; Manufacturer: National Semiconductor; PackageTopMarking: C38*XTT; PowerWise: Y; CompType: Amplifiers; Published: 1-Mar-2010; DatasheetVersion: May-2008; PackageVersion: revB, Jun-2007; PackageReference: MAA06A; Publisher: Altium Limited; PackageDescription: Molded SC-70, 2 x 1.25 x .9mm, 6 Lead, 0.65mm Pitch; Supplier 1: Digi-Key; Supplier Part Number 1: LMH7220MGTR-ND; Supplier 2: Digi-Key; Supplier Part Number 2: LMH7220MGCT-ND; Supplier 3: Digi-Key; Supplier Part Number 3: LMH7220MGDKR-ND; RoHS: Y; PinCount: 6; ComponentLink1Description: LMH7220 Datasheet; ComponentLink1URL: http://www.national.com/ds/LM/LMH7220.pdf; ComponentLink2Description: LMH7220 Web Page; ComponentLink2URL: http://www.national.com/pf/LM/LMH7220.html; ComponentLink3Description: MAA06A Package Page; ComponentLink3URL: http://www.national.com/packaging/folders/maa06a.html
footprint MAA06A_N (SOT363, 6-Leads, Body 2x1.3mm, Pitch 0.65mm, Lead Span 2.1mm, IPC Medium Density)
footprint MAA06A_L (SOT363, 6-Leads, Body 2x1.3mm, Pitch 0.65mm, Lead Span 2.1mm, IPC High Density)
footprint MAA06A_M (SOT363, 6-Leads, Body 2x1.3mm, Pitch 0.65mm, Lead Span 2.1mm, IPC Low Density)
pins: 1 IN- (in), 2 GND (power), 3 OUT ~{Q} (out), 4  OUT Q (out), 5 VCC (power), 6 IN+ (in)

## LMH7220MK
designator U?
High Speed Comparator with LVDS Output, 6-pin Tiny SOT23; PartNumber: LMH7220MK; Manufacturer: National Semiconductor; PackageTopMarking: C29A*XTT; PowerWise: Y; CompType: Amplifiers; Published: 4-Dec-2008; DatasheetVersion: May-2008; PackageVersion: revE, Nov-2008; PackageReference: MK06A; Publisher: Altium Limited; PackageDescription: Molded TSOT, 2.97 x 1.65 x 0.87mm Body, 6 Lead, 0.95mm Pitch; Supplier 1: Farnell; Supplier Part Number 1: 1290938; RoHS: N; PinCount: 6; Code_JEDEC: MO-193-AA; Code_IPC: SOT26A-6; ComponentLink1Description: LMH7220 Datasheet; ComponentLink1URL: http://www.national.com/ds/LM/LMH7220.pdf; ComponentLink2Description: LMH7220 Web Page; ComponentLink2URL: http://www.national.com/pf/LM/LMH7220.html; ComponentLink3Description: MK06A Package Page; ComponentLink3URL: http://www.national.com/packaging/folders/mk06a.html
footprint MK06A_N (SOT23, 6-Leads, Body 3.0x1.7mm, Pitch 0.95mm, Lead Span 2.9mm, IPC Medium Density)
footprint MK06A_L (SOT23, 6-Leads, Body 3.0x1.7mm, Pitch 0.95mm, Lead Span 2.9mm, IPC High Density)
footprint MK06A_M (SOT23, 6-Leads, Body 3.0x1.7mm, Pitch 0.95mm, Lead Span 2.9mm, IPC Low Density)
pins: 1 IN- (in), 2 GND (power), 3 OUT ~{Q} (out), 4  OUT Q (out), 5 VCC (power), 6 IN+ (in)

## LMH7220MK/NOPB
designator U?
High Speed Comparator with LVDS Output, 6-pin Tiny SOT23, Pb-Free; PartNumber: LMH7220MK/NOPB; Manufacturer: National Semiconductor; PackageTopMarking: C29A*XTT; PowerWise: Y; CompType: Amplifiers; Published: 1-Mar-2010; DatasheetVersion: May-2008; PackageVersion: revE, Nov-2008; PackageReference: MK06A; Publisher: Altium Limited; PackageDescription: Molded TSOT, 2.97 x 1.65 x 0.87mm Body, 6 Lead, 0.95mm Pitch; Supplier 1: Digi-Key; Supplier Part Number 1: LMH7220MKTR-ND; Supplier 2: Digi-Key; Supplier Part Number 2: LMH7220MKCT-ND; Supplier 3: Digi-Key; Supplier Part Number 3: LMH7220MKDKR-ND; Supplier 4: Farnell; Supplier Part Number 4: 1685408; RoHS: Y; PinCount: 6; Code_JEDEC: MO-193-AA; Code_IPC: SOT26A-6; ComponentLink1Description: LMH7220 Datasheet; ComponentLink1URL: http://www.national.com/ds/LM/LMH7220.pdf; ComponentLink2Description: LMH7220 Web Page; ComponentLink2URL: http://www.national.com/pf/LM/LMH7220.html; ComponentLink3Description: MK06A Package Page; ComponentLink3URL: http://www.national.com/packaging/folders/mk06a.html
footprint MK06A_N (SOT23, 6-Leads, Body 3.0x1.7mm, Pitch 0.95mm, Lead Span 2.9mm, IPC Medium Density)
footprint MK06A_L (SOT23, 6-Leads, Body 3.0x1.7mm, Pitch 0.95mm, Lead Span 2.9mm, IPC High Density)
footprint MK06A_M (SOT23, 6-Leads, Body 3.0x1.7mm, Pitch 0.95mm, Lead Span 2.9mm, IPC Low Density)
pins: 1 IN- (in), 2 GND (power), 3 OUT ~{Q} (out), 4  OUT Q (out), 5 VCC (power), 6 IN+ (in)

## LMH7322SQ
designator U?
Dual 700 ps High Speed Comparator with RSPECL Outputs, 24-pin LLP; PartNumber: LMH7322SQ; Manufacturer: National Semiconductor; PackageTopMarking: NS*UZXYTT*L7322SQ; PowerWise: Y; CompType: Amplifiers; Published: 4-Dec-2008; DatasheetVersion: May-2008; PackageVersion: revB, Aug-2003; PackageReference: SQA24A; Publisher: Altium Limited; PackageDescription: LLP, Plastic, Quad, 4 x 4 x 0.8mm Body, 24 Lead, 0.5mm Pitch, No Pullback; Supplier 1: Farnell; Supplier Part Number 1: 1359428; RoHS: Y; PinCount: 24; Code_JEDEC: MO-220-WGGD-6; ComponentLink1Description: LMH7322 Datasheet; ComponentLink1URL: http://www.national.com/ds/LM/LMH7322.pdf; ComponentLink2Description: LMH7322 Web Page; ComponentLink2URL: http://www.national.com/pf/LM/LMH7322.html; ComponentLink3Description: SQA24A Package Page; ComponentLink3URL: http://www.national.com/packaging/folders/sqa24a.html
footprint SQA24A (QFN, 24-Leads, Body 4x4mm, Pitch 0.5mm, NSC Recommended)
part A pins: 1 VCCOA (power), 2 LEA, 3 ~{LEA}, 4 VEEA (power), 5 VCCIA (power), 6 RHYSA, 7 INA- (in), 8 INA+ (in), 9 RHREFA, 22 VCCOA (power), 23 QA (out), 24 ~{QA} (out), 25 DAP (power)
part B pins: 10 RHREFB, 11 INB+ (in), 12 INB- (in), 13 RHYSB, 14 VCCIB (power), 15 VEEB (power), 16 ~{LEB}, 17 LEB, 18 VCCOB (power), 19 ~{QB} (out), 20 QB (out), 21 VCCOB (power)

## LMH7322SQ/NOPB
designator U?
Dual 700 ps High Speed Comparator with RSPECL Outputs, 24-pin LLP, Pb-Free; PartNumber: LMH7322SQ/NOPB; Manufacturer: National Semiconductor; PackageTopMarking: NS*UZXYTT*L7322SQ; PowerWise: Y; CompType: Amplifiers; Published: 1-Mar-2010; DatasheetVersion: May-2008; PackageVersion: revB, Aug-2003; PackageReference: SQA24A; Publisher: Altium Limited; PackageDescription: LLP, Plastic, Quad, 4 x 4 x 0.8mm Body, 24 Lead, 0.5mm Pitch, No Pullback; Supplier 1: Digi-Key; Supplier Part Number 1: LMH7322SQTR-ND; Supplier 2: Digi-Key; Supplier Part Number 2: LMH7322SQCT-ND; Supplier 3: Digi-Key; Supplier Part Number 3: LMH7322SQDKR-ND; Supplier 4: Farnell; Supplier Part Number 4: 1364440; RoHS: Y; PinCount: 24; Code_JEDEC: MO-220-WGGD-6; ComponentLink1Description: LMH7322 Datasheet; ComponentLink1URL: http://www.national.com/ds/LM/LMH7322.pdf; ComponentLink2Description: LMH7322 Web Page; ComponentLink2URL: http://www.national.com/pf/LM/LMH7322.html; ComponentLink3Description: SQA24A Package Page; ComponentLink3URL: http://www.national.com/packaging/folders/sqa24a.html
footprint SQA24A (QFN, 24-Leads, Body 4x4mm, Pitch 0.5mm, NSC Recommended)
part A pins: 1 VCCOA (power), 2 LEA, 3 ~{LEA}, 4 VEEA (power), 5 VCCIA (power), 6 RHYSA, 7 INA- (in), 8 INA+ (in), 9 RHREFA, 22 VCCOA (power), 23 QA (out), 24 ~{QA} (out), 25 DAP (power)
part B pins: 10 RHREFB, 11 INB+ (in), 12 INB- (in), 13 RHYSB, 14 VCCIB (power), 15 VEEB (power), 16 ~{LEB}, 17 LEB, 18 VCCOB (power), 19 ~{QB} (out), 20 QB (out), 21 VCCOB (power)

## LMH7322SQE/NOPB
designator U?
Dual 700 ps High Speed Comparator with RSPECL Outputs, 24-pin LLP, Pb-Free; PartNumber: LMH7322SQE/NOPB; Manufacturer: National Semiconductor; PackageTopMarking: NS*UZXYTT*L7322SQ; PowerWise: N; CompType: Amplifiers; Published: 1-Mar-2010; DatasheetVersion: May-2008; PackageVersion: revB, Aug-2003; PackageReference: SQA24A; Publisher: Altium Limited; PackageDescription: LLP, Plastic, Quad, 4 x 4 x 0.8mm Body, 24 Lead, 0.5mm Pitch, No Pullback; Supplier 1: Digi-Key; Supplier Part Number 1: LMH7322SQE-ND; RoHS: Y; PinCount: 24; Code_JEDEC: MO-220-WGGD-6; ComponentLink1Description: LMH7322 Datasheet; ComponentLink1URL: http://www.national.com/ds/LM/LMH7322.pdf; ComponentLink2Description: LMH7322 Web Page; ComponentLink2URL: http://www.national.com/pf/LM/LMH7322.html; ComponentLink3Description: SQA24A Package Page; ComponentLink3URL: http://www.national.com/packaging/folders/sqa24a.html
footprint SQA24A (QFN, 24-Leads, Body 4x4mm, Pitch 0.5mm, NSC Recommended)
part A pins: 1 VCCOA (power), 2 LEA, 3 ~{LEA}, 4 VEEA (power), 5 VCCIA (power), 6 RHYSA, 7 INA- (in), 8 INA+ (in), 9 RHREFA, 22 VCCOA (power), 23 QA (out), 24 ~{QA} (out), 25 DAP (power)
part B pins: 10 RHREFB, 11 INB+ (in), 12 INB- (in), 13 RHYSB, 14 VCCIB (power), 15 VEEB (power), 16 ~{LEB}, 17 LEB, 18 VCCOB (power), 19 ~{QB} (out), 20 QB (out), 21 VCCOB (power)

## LMH7324SQ
designator U?
Quad 700 ps High Speed Comparator with RSPECL Outputs, 32-pin LLP; PartNumber: LMH7324SQ; Manufacturer: National Semiconductor; PackageTopMarking: NS*UZXYTT*L7324SQ; PowerWise: Y; CompType: Amplifiers; Published: 4-Dec-2008; DatasheetVersion: May-2008; PackageVersion: revB, Oct-2009; PackageReference: SQA32A; Publisher: Altium Limited; PackageDescription: LLP, Quad, 5 x 5 x 0.8mm, 32 Lead, 0.5mm Pitch, No Pullback 3.1 x 3.1 Exposed Pad; Supplier 1: Farnell; Supplier Part Number 1: 1506815; RoHS: Y; PinCount: 32; ComponentLink1Description: LMH7324 Datasheet; ComponentLink1URL: http://www.national.com/ds/LM/LMH7324.pdf; ComponentLink2Description: LMH7324 Web Page; ComponentLink2URL: http://www.national.com/pf/LM/LMH7324.html; ComponentLink3Description: SQA32A Package Page; ComponentLink3URL: http://www.national.com/packaging/folders/sqa32a.html
footprint SQA32A (QFN, 32-Leads, Body 5x5mm, Pitch 0.5mm, NSC Recommended)
part A pins: 1 VCCOA (power), 2 ~{QA} (out), 3 QA (out), 4 VEEA (power), 29 VEEA (power), 30 INA+ (in), 31 INA- (in), 32 VCCIA (power)
part B pins: 5 VEEB (power), 6 QB (out), 7 ~{QB} (out), 8 VCCOB (power), 9 VCCIB (power), 10 INB+ (in), 11 INB- (in), 12 VEEB (power)
part C pins: 13 VEEC (power), 14 INC+ (in), 15 INC- (in), 16 VCCIC (power), 17 VCCOC (power), 18 ~{QC} (out), 19 QC (out), 20 VEEC (power)
part D pins: 21 VEED (power), 22 QD (out), 23 ~{QD} (out), 24 VCCOD (power), 25 VCCID (power), 26 IND- (in), 27 IND+ (in), 28 VEED (power)
part E pins: 33 DAP

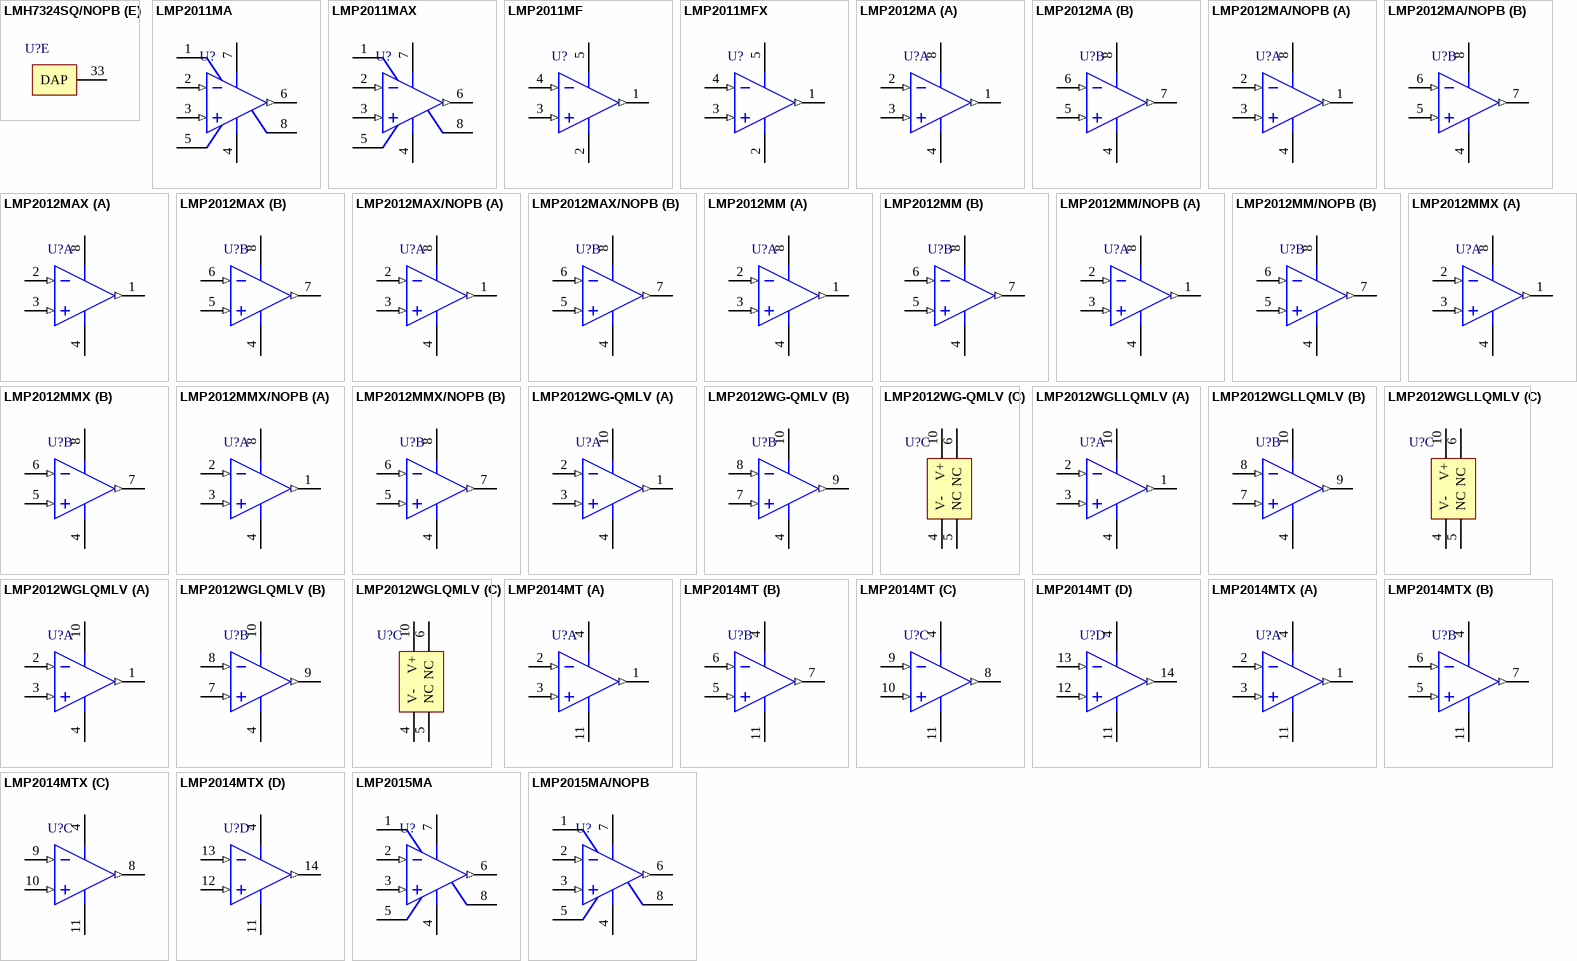
[diagram p54: symbols LMH7324SQ/NOPB to LMP2015MA/NOPB]

## LMH7324SQ/NOPB
designator U?
Quad 700 ps High Speed Comparator with RSPECL Outputs, 32-pin LLP, Pb-Free; PartNumber: LMH7324SQ/NOPB; Manufacturer: National Semiconductor; PackageTopMarking: NS*UZXYTT*L7324SQ; PowerWise: Y; CompType: Amplifiers; Published: 1-Mar-2010; DatasheetVersion: May-2008; PackageVersion: revB, Oct-2009; PackageReference: SQA32A; Publisher: Altium Limited; PackageDescription: LLP, Quad, 5 x 5 x 0.8mm, 32 Lead, 0.5mm Pitch, No Pullback 3.1 x 3.1 Exposed Pad; Supplier 1: Digi-Key; Supplier Part Number 1: LMH7324SQTR-ND; Supplier 2: Digi-Key; Supplier Part Number 2: LMH7324SQCT-ND; Supplier 3: Digi-Key; Supplier Part Number 3: LMH7324SQDKR-ND; RoHS: Y; PinCount: 32; ComponentLink1Description: LMH7324 Datasheet; ComponentLink1URL: http://www.national.com/ds/LM/LMH7324.pdf; ComponentLink2Description: LMH7324 Web Page; ComponentLink2URL: http://www.national.com/pf/LM/LMH7324.html; ComponentLink3Description: SQA32A Package Page; ComponentLink3URL: http://www.national.com/packaging/folders/sqa32a.html
footprint SQA32A (QFN, 32-Leads, Body 5x5mm, Pitch 0.5mm, NSC Recommended)
part A pins: 1 VCCOA (power), 2 ~{QA} (out), 3 QA (out), 4 VEEA (power), 29 VEEA (power), 30 INA+ (in), 31 INA- (in), 32 VCCIA (power)
part B pins: 5 VEEB (power), 6 QB (out), 7 ~{QB} (out), 8 VCCOB (power), 9 VCCIB (power), 10 INB+ (in), 11 INB- (in), 12 VEEB (power)
part C pins: 13 VEEC (power), 14 INC+ (in), 15 INC- (in), 16 VCCIC (power), 17 VCCOC (power), 18 ~{QC} (out), 19 QC (out), 20 VEEC (power)
part D pins: 21 VEED (power), 22 QD (out), 23 ~{QD} (out), 24 VCCOD (power), 25 VCCID (power), 26 IND- (in), 27 IND+ (in), 28 VEED (power)
part E pins: 33 DAP

## LMP2011MA
designator U?
Single, High Precision, Rail-to-Rail Output Operational Amplifier, 8-pin Narrow SOIC; PartNumber: LMP2011MA; Manufacturer: National Semiconductor; PackageTopMarking: NSZXTT*LMP20*11MA; PowerWise: N; CompType: Amplifiers; Published: 4-Dec-2008; LatestRevisionDate: 13-Jan-2009; LatestRevisionNote: Sim Model Added.; DatasheetVersion: Jul-2008; PackageVersion: revM, May-2009; PackageReference: M08A; Publisher: Altium Limited; PackageDescription: SOIC Narrow, 4.9 x 3.9 x 1.45mm, 8 Lead, 1.27mm Pitch; Supplier 1: Farnell; Supplier Part Number 1: 1008279; RoHS: N; PinCount: 8; Code_JEDEC: MS-012-AA; Code_IPC: SOIC127P600-8; ComponentLink1Description: LMP2011 Datasheet; ComponentLink1URL: http://www.national.com/ds/LM/LMP2011.pdf; ComponentLink2Description: LMP2011 Web Page; ComponentLink2URL: http://www.national.com/pf/LM/LMP2011.html; ComponentLink3Description: M08A Package Page; ComponentLink3URL: http://www.national.com/packaging/folders/m08a.html
footprint M08A_N (SOIC, 8-Leads, Body 4.9x3.9mm, Pitch 1.27mm, IPC Medium Density)
footprint M08A_L (SOIC, 8-Leads, Body 4.9x3.9mm, Pitch 1.27mm, IPC High Density)
footprint M08A_M (SOIC, 8-Leads, Body 4.9x3.9mm, Pitch 1.27mm, IPC Low Density)
simulation model LMP2011 (SUBCKT)
pins: 1 NC, 2 IN- (in), 3 IN+ (in), 4 V- (power), 5 NC, 6 OUT (out), 7 V+ (power), 8 NC

## LMP2011MAX
designator U?
Single, High Precision, Rail-to-Rail Output Operational Amplifier, 8-pin Narrow SOIC; PartNumber: LMP2011MAX; Manufacturer: National Semiconductor; PackageTopMarking: NSZXTT*LMP20*11MA; PowerWise: N; CompType: Amplifiers; Published: 1-Mar-2010; DatasheetVersion: Jul-2008; PackageVersion: revM, May-2009; PackageReference: M08A; Publisher: Altium Limited; PackageDescription: SOIC Narrow, 4.9 x 3.9 x 1.45mm, 8 Lead, 1.27mm Pitch; RoHS: N; PinCount: 8; Code_JEDEC: MS-012-AA; Code_IPC: SOIC127P600-8; ComponentLink1Description: LMP2011 Datasheet; ComponentLink1URL: http://www.national.com/ds/LM/LMP2011.pdf; ComponentLink2Description: LMP2011 Web Page; ComponentLink2URL: http://www.national.com/pf/LM/LMP2011.html; ComponentLink3Description: M08A Package Page; ComponentLink3URL: http://www.national.com/packaging/folders/m08a.html
footprint M08A_N (SOIC, 8-Leads, Body 4.9x3.9mm, Pitch 1.27mm, IPC Medium Density)
footprint M08A_L (SOIC, 8-Leads, Body 4.9x3.9mm, Pitch 1.27mm, IPC High Density)
footprint M08A_M (SOIC, 8-Leads, Body 4.9x3.9mm, Pitch 1.27mm, IPC Low Density)
simulation model LMP2011 (SUBCKT)
pins: 1 NC, 2 IN- (in), 3 IN+ (in), 4 V- (power), 5 NC, 6 OUT (out), 7 V+ (power), 8 NC

## LMP2011MF
designator U?
Single, High Precision, Rail-to-Rail Output Operational Amplifier, 5-pin SOT-23; PartNumber: LMP2011MF; Manufacturer: National Semiconductor; PackageTopMarking: AN1A*XTT; PowerWise: N; CompType: Amplifiers; Published: 4-Dec-2008; LatestRevisionDate: 13-Jan-2009; LatestRevisionNote: Sim Model Added.; DatasheetVersion: Jul-2008; PackageVersion: revD, Aug-2008; PackageReference: MF05A; Publisher: Altium Limited; PackageDescription: Molded SOT-23, .115 x .063 x .040 in Body, 5 Lead, .0375 in Pitch; Supplier 1: Farnell; Supplier Part Number 1: 1008280; RoHS: N; PinCount: 5; ComponentLink1Description: LMP2011 Datasheet; ComponentLink1URL: http://www.national.com/ds/LM/LMP2011.pdf; ComponentLink2Description: LMP2011 Web Page; ComponentLink2URL: http://www.national.com/pf/LM/LMP2011.html; ComponentLink3Description: MF05A Package Page; ComponentLink3URL: http://www.national.com/packaging/folders/mf05a.html
footprint MF05A_N (SOT23, 5-Leads, Body 2.9x1.6mm, Pitch 0.95mm, Lead Span 2.8mm, IPC Medium Density)
footprint MF05A_L (SOT23, 5-Leads, Body 2.9x1.6mm, Pitch 0.95mm, Lead Span 2.8mm, IPC High Density)
footprint MF05A_M (SOT23, 5-Leads, Body 2.9x1.6mm, Pitch 0.95mm, Lead Span 2.8mm, IPC Low Density)
simulation model LMP2011 (SUBCKT)
pins: 1 OUT (out), 2 V- (power), 3 IN+ (in), 4 IN- (in), 5 V+ (power)

## LMP2011MFX
designator U?
Single, High Precision, Rail-to-Rail Output Operational Amplifier, 5-pin SOT-23; PartNumber: LMP2011MFX; Manufacturer: National Semiconductor; PackageTopMarking: AN1A*XTT; PowerWise: N; CompType: Amplifiers; Published: 1-Mar-2010; DatasheetVersion: Jul-2008; PackageVersion: revD, Aug-2008; PackageReference: MF05A; Publisher: Altium Limited; PackageDescription: Molded SOT-23, .115 x .063 x .040 in Body, 5 Lead, .0375 in Pitch; RoHS: N; PinCount: 5; ComponentLink1Description: LMP2011 Datasheet; ComponentLink1URL: http://www.national.com/ds/LM/LMP2011.pdf; ComponentLink2Description: LMP2011 Web Page; ComponentLink2URL: http://www.national.com/pf/LM/LMP2011.html; ComponentLink3Description: MF05A Package Page; ComponentLink3URL: http://www.national.com/packaging/folders/mf05a.html
footprint MF05A_N (SOT23, 5-Leads, Body 2.9x1.6mm, Pitch 0.95mm, Lead Span 2.8mm, IPC Medium Density)
footprint MF05A_L (SOT23, 5-Leads, Body 2.9x1.6mm, Pitch 0.95mm, Lead Span 2.8mm, IPC High Density)
footprint MF05A_M (SOT23, 5-Leads, Body 2.9x1.6mm, Pitch 0.95mm, Lead Span 2.8mm, IPC Low Density)
simulation model LMP2011 (SUBCKT)
pins: 1 OUT (out), 2 V- (power), 3 IN+ (in), 4 IN- (in), 5 V+ (power)

## LMP2012MA
designator U?
Dual, High Precision, Rail-to-Rail Output Operational Amplifier, 8-pin Narrow SOIC; PartNumber: LMP2012MA; Manufacturer: National Semiconductor; PackageTopMarking: NSZXTT*LMP20*12MA; PowerWise: N; CompType: Amplifiers; Published: 4-Dec-2008; LatestRevisionDate: 30-Oct-2009; LatestRevisionNote: Single Op Amp replaced with Dual Op Amp.; DatasheetVersion: Jul-2008; PackageVersion: revM, May-2009; PackageReference: M08A; Publisher: Altium Limited; PackageDescription: SOIC Narrow, 4.9 x 3.9 x 1.45mm, 8 Lead, 1.27mm Pitch; Supplier 1: Farnell; Supplier Part Number 1: 1286777; RoHS: N; PinCount: 8; Code_JEDEC: MS-012-AA; Code_IPC: SOIC127P600-8; ComponentLink1Description: LMP2012 Datasheet; ComponentLink1URL: http://www.national.com/ds/LM/LMP2012.pdf; ComponentLink2Description: LMP2012 Web Page; ComponentLink2URL: http://www.national.com/pf/LM/LMP2012.html; ComponentLink3Description: M08A Package Page; ComponentLink3URL: http://www.national.com/packaging/folders/m08a.html
footprint M08A_N (SOIC, 8-Leads, Body 4.9x3.9mm, Pitch 1.27mm, IPC Medium Density)
footprint M08A_L (SOIC, 8-Leads, Body 4.9x3.9mm, Pitch 1.27mm, IPC High Density)
footprint M08A_M (SOIC, 8-Leads, Body 4.9x3.9mm, Pitch 1.27mm, IPC Low Density)
simulation model LMP2011 (SUBCKT)
pins on every part: 4 V- (power), 8 V+ (power)
part A pins: 1 OUT1 (out), 2 IN1- (in), 3 IN1+ (in)
part B pins: 5 IN2+ (in), 6 IN2- (in), 7 OUT2 (out)

## LMP2012MA/NOPB
designator U?
Dual, High Precision, Rail-to-Rail Output Operational Amplifier, 8-pin Narrow SOIC, Pb-Free; PartNumber: LMP2012MA/NOPB; Manufacturer: National Semiconductor; PackageTopMarking: NSZXTT*LMP20*12MA; PowerWise: N; CompType: Amplifiers; Published: 1-Mar-2010; DatasheetVersion: Jul-2008; PackageVersion: revM, May-2009; PackageReference: M08A; Publisher: Altium Limited; PackageDescription: SOIC Narrow, 4.9 x 3.9 x 1.45mm, 8 Lead, 1.27mm Pitch; Supplier 1: Digi-Key; Supplier Part Number 1: LMP2012MA-ND; RoHS: Y; PinCount: 8; Code_JEDEC: MS-012-AA; Code_IPC: SOIC127P600-8; ComponentLink1Description: LMP2012 Datasheet; ComponentLink1URL: http://www.national.com/ds/LM/LMP2012.pdf; ComponentLink2Description: LMP2012 Web Page; ComponentLink2URL: http://www.national.com/pf/LM/LMP2012.html; ComponentLink3Description: M08A Package Page; ComponentLink3URL: http://www.national.com/packaging/folders/m08a.html
footprint M08A_N (SOIC, 8-Leads, Body 4.9x3.9mm, Pitch 1.27mm, IPC Medium Density)
footprint M08A_L (SOIC, 8-Leads, Body 4.9x3.9mm, Pitch 1.27mm, IPC High Density)
footprint M08A_M (SOIC, 8-Leads, Body 4.9x3.9mm, Pitch 1.27mm, IPC Low Density)
simulation model LMP2011 (SUBCKT)
pins on every part: 4 V- (power), 8 V+ (power)
part A pins: 1 OUT1 (out), 2 IN1- (in), 3 IN1+ (in)
part B pins: 5 IN2+ (in), 6 IN2- (in), 7 OUT2 (out)